# Altium schematic symbol library HEADER_1x21Schlib.SchLib: 1 symbol
Pins are listed as number, name and electrical type; pins without a type are passive.

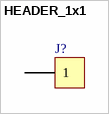
[diagram p0: symbol HEADER_1x1]

## HEADER_1x1
designator J?
pins: 1